# EAGLE library part OPA2314 (library SaintGimp)
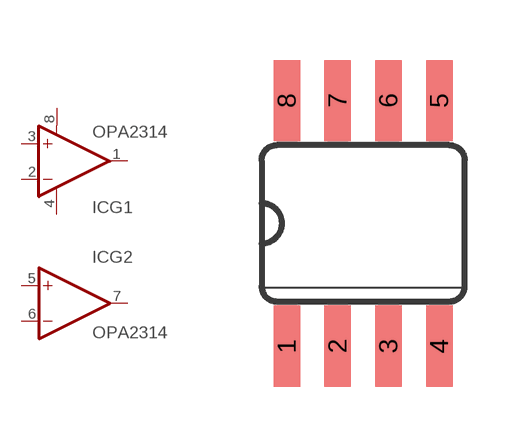
[diagram p20: symbol with the pads of SO-08; footprint SO-08]

Designator prefix IC; gates G1=OP-AMP+- G2=OP-AMP

## OPA2314-SO-08  [SO-08]
1  G1:OUT  out
2  G1:-IN  in
3  G1:+IN  in
4  G1:V-  pwr
5  G2:+IN  in
6  G2:-IN  in
7  G2:OUT  out
8  G1:V+  pwr

## Footprint SO-08 (pad centres in mm)
Small Outline package 8 150 mil
smd 0.66 x 2.032: 1 -1.905,-3.073; 2 -0.635,-3.073; 3 0.635,-3.073; 4 1.905,-3.073; 5 1.905,3.073; 6 0.635,3.073; 7 -0.635,3.073; 8 -1.905,3.073